# Altium integrated library Altium_BJT.IntLib: 5 symbols
Pins are listed as number, name and electrical type; pins without a type are passive.

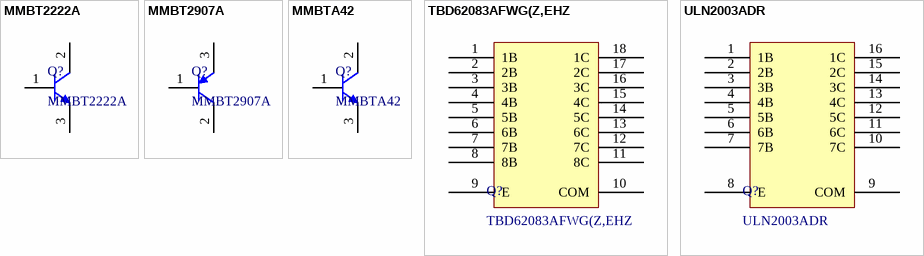
[diagram p0: symbols MMBT2222A to ULN2003ADR]

## MMBT2222A
designator Q?
TRANS NPN, 40V, 600MA, SOT23-3; Manufacturer: Diotec Semiconductor; DC Current Gain: 35-300; Gain Bandwidth Product fT: 250MHz; Power Dissipation: 250mW; Configuration: Single; Current - Collector: 600mA; Supplier 1 URL: https://www.mouser.vn/ProductDetail/Diotec-Semiconductor/MMBT2222A?qs=OlC7AqGiEDl9N1c3%252BL%2F%252Brw%3D%3D; Supplier 2 URL: https://www.digikey.com/en/products/detail/diotec-semiconductor/MMBT2222A/13163394; Supplier 3 URL: https://www.thegioiic.com/mmbt2222a-transistor-npn-40v-0-6a-3-chan-sot-23; Voltage - Collector Emitter Breakdown: 40V; Value: MMBT2222A; ComponentLink1Description: Datasheet; ComponentLink1URL: https://www.mouser.vn/datasheet/2/849/mmbt2222-3324676.pdf; Manufacturer Part Number: MMBT2222A; Mount: SMD/SMT; Operating Temperature Max: + 150 C; Operating Temperature Min: - 55 C; Package / Case: SOT-23; Packaging: Tape and Reel; Supplier 1: Mouser; Supplier 1 Part Number: 637-MMBT2222A; Supplier 2: Digi-Key; Supplier 2 Part Number: 2796-MMBT2222ATR-ND; Supplier 3: thegioiic; Supplier 3 Part Number: N/A; Transistor Polarity: NPN; LCSC Part #: C94515
footprint MMBT-SOT23
pins: 1 B, 2 C, 3 E

## MMBT2907A
designator Q?
TRANS PNP 60V 0.6A SOT23-3; Manufacturer: Diotec Semiconductor; Current - Collector: 600mA; DC Current Gain: 50-300; Gain Bandwidth Product fT: 200MHz; Power Dissipation: 250mW; Configuration: Single; Voltage - Collector Emitter Breakdown: 60V; Supplier 1 URL: https://www.mouser.vn/ProductDetail/Diotec-Semiconductor/MMBT2907A?qs=OlC7AqGiEDk%2F%2FX9t05LXdg%3D%3D; Supplier 2 URL: https://www.digikey.com/en/products/detail/dcomponents/MMBT2907A/13574996; Supplier 3 URL: https://www.thegioiic.com/mmbt2907a-transistor-pnp-60v-0-6a-3-chan-sot-23; Value: MMBT2907A; ComponentLink1Description: Datasheet; ComponentLink1URL: https://www.mouser.vn/datasheet/2/849/mmbt2907-3324331.pdf; Manufacturer Part Number: MMBT2907A; Mount: SMD/SMT; Operating Temperature Max: + 150 C; Operating Temperature Min: - 55 C; Package / Case: SOT-23; Packaging: Tape and Reel; Supplier 1: Mouser; Supplier 1 Part Number: 637-MMBT2907A; Supplier 2: Digi-Key; Supplier 2 Part Number: 2721-MMBT2907A-ND; Supplier 3: thegioiic; Supplier 3 Part Number: N/A; Transistor Polarity: PNP; LCSC Part #: C727132
footprint MMBT-SOT23
pins: 1 B, 2 C, 3 E

## MMBTA42
designator Q?
TRANS NPN, 300V, 0.5A, SOT23-3; Manufacturer: Diotec Semiconductor; Current - Collector: 500mA; DC Current Gain: 80-200; Power Dissipation: 250mW; Gain Bandwidth Product fT: 50MHz; Configuration: Single; Voltage - Collector Emitter Breakdown: 300V; Supplier 1 URL: https://www.mouser.vn/ProductDetail/Diotec-Semiconductor/MMBTA42?qs=OlC7AqGiEDkTSphcOD18pw%3D%3D; Supplier 2 URL: https://www.digikey.com/en/products/detail/diotec-semiconductor/MMBTA42/13163233; Supplier 3 URL: https://www.thegioiic.com/mmbta42-transistor-npn-300v-0-5a-3-chan-sot-23; Value: MMBTA42; ComponentLink1Description: Datasheet; ComponentLink1URL: https://www.mouser.vn/datasheet/2/849/mmbta42-3324876.pdf; Manufacturer Part Number: MMBTA42; Mount: SMD/SMT; Operating Temperature Max: + 150 C; Operating Temperature Min: - 55 C; Package / Case: SOT-23; Packaging: Tape and Reel; Supplier 1: Mouser; Supplier 1 Part Number: 637-MMBTA42; Supplier 2: Digi-Key; Supplier 2 Part Number: 2796-MMBTA42TR-ND; Supplier 3: thegioiic; Supplier 3 Part Number: N/A; Transistor Polarity: NPN; LCSC Part #: N/A
footprint MMBT-SOT23
pins: 1 B, 2 C, 3 E

## TBD62083AFWG(Z,EHZ
designator Q?
Gate Drivers DMOS Transistor Array 8-CH, 50V/0.5A; Manufacturer: Toshiba; Manufacturer Part Number: TBD62083AFWG,EL; Voltage - Collector Emitter Breakdown: 50V; Current - Collector: 500mA; Power Dissipation: 1.47 W; Configuration: Inverting; Transistor Polarity: NPN; Number of Drivers: 8; Supplier 1 URL: https://www.mouser.vn/ProductDetail/Toshiba/TBD62083AFWGEL?qs=fSnNYG2PaKJPpDBB6xK1QA%3D%3D; Supplier 2 URL: N/A; Supplier 3 URL: N/A; Value: TBD62083AFWG(Z,EHZ; ComponentLink1Description: Datasheet; ComponentLink1URL: https://www.mouser.com/datasheet/2/408/TBD62083AFWG_datasheet_en_20160511-769679.pdf; DC Current Gain: N/A; Mount: SMD/SMT; Operating Temperature Max: + 85 C; Operating Temperature Min: - 40 C; Package / Case: PSOP-18; Packaging: Tape and Reel; Supplier 1: Mouser; Supplier 1 Part Number: 757-TBD62083AFWGEL; Supplier 2: Digi-Key; Supplier 2 Part Number: N/A; Supplier 3: thegioiic; Supplier 3 Part Number: N/A; LCSC Part #: C108880; Number of Outputs: 8
footprint TBD62083AFWG(Z,EHZ (SOIC, 18-Leads, Body 11.52x7.50mm, Pitch 1.27mm, IPC Medium Density)
pins: 1 1B, 2 2B, 3 3B, 4 4B, 5 5B, 6 6B, 7 7B, 8 8B, 9 E, 10 COM, 11 8C, 12 7C, 13 6C, 14 5C, 15 4C, 16 3C, 17 2C, 18 1C

## ULN2003ADR
designator Q?
Darlington Transistors Darlington; Manufacturer: Texas Instruments; Voltage - Collector Emitter Breakdown: 50V; Current - Collector: 500mA; Configuration: Array 7; Transistor Polarity: NPN; Power Dissipation: N/A; Supplier 1 URL: https://www.mouser.vn/ProductDetail/Texas-Instruments/ULN2003ADR?qs=D5pVkbrsqqI8WxXD0eSvDA%3D%3D; Supplier 2 URL: N/A; Supplier 3 URL: https://www.thegioiic.com/uln2003adr-transistor-npn-7-ngo-ra-darlington-50v-0-5a-16-soic; Value: ULN2003ADR; ComponentLink1Description: Datasheet; ComponentLink1URL: https://www.ti.com/general/docs/suppproductinfo.tsp?distId=26&gotoUrl=https://www.ti.com/lit/gpn/uln2003a; DC Current Gain: N/A; Manufacturer Part Number: ULN2003ADR; Mount: SMD/SMT; Operating Temperature Max: + 70 C; Operating Temperature Min: - 20 C; Package / Case: SOIC-Narrow-16; Packaging: Tape and Reel; Supplier 1: Mouser; Supplier 1 Part Number: 595-ULN2003ADR; Supplier 2: Digi-Key; Supplier 2 Part Number: N/A; Supplier 3: thegioiic; Supplier 3 Part Number: ULN2003ADR; LCSC Part #: C7512
footprint ULN2003ADR (SOIC, 16-Leads, Body 10.20x5.30mm, Pitch 1.27mm, IPC Medium Density)
pins: 1 1B, 2 2B, 3 3B, 4 4B, 5 5B, 6 6B, 7 7B, 8 E, 9 COM, 10 7C, 11 6C, 12 5C, 13 4C, 14 3C, 15 2C, 16 1C